# Altium integrated library 101003136802.IntLib: 1 symbol
Pins are listed as number, name and electrical type; pins without a type are passive.

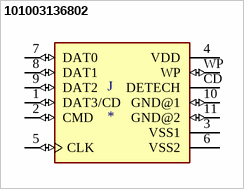
[diagram p0: symbol 101003136802]

## 101003136802
designator J
9 Position Card Connector Secure Digital - SD Surface Mount, Right Angle Gold; MP: 101003136802; MF: Amphenol ICC; Value: *; Package: None; Availability: Unavailable; Price: None; SnapEDA_Link: https://www.snapeda.com/parts/101003136802/Amphenol%20FCI/view-part/2874276/?ref=snap
footprint AMPHENOL_101003136802
pins: 1 DAT3/CD (io), 2 CMD (io), 3 VSS1 (power), 4 VDD (power), 5 CLK (io), 6 VSS2, 7 DAT0 (io), 8 DAT1 (io), 9 DAT2 (io), 10 GND@1 (io), 11 GND@2 (io), CD DETECH, WP (io)